# EAGLE library part 52892-1895 (library Molex_By_element14_Batch_1)
CONNECTOR, FPC, ZIF, 0.50MM, 18 WAY
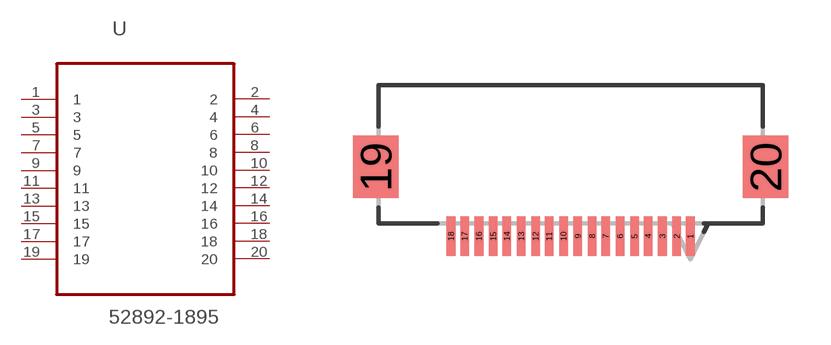
[diagram p32: symbol with the pads of MOLEX_52892-1895; footprint MOLEX_52892-1895]

Designator prefix U

## 52892-1895 (MPN: 52892-1895; OC_FARNELL: 1556808; OC_NEWARK: 95M2697; PACKAGE: CONNECTOR, FPC, ZIF, 0.50MM, 18 WAY; SUPPLIER: Molex)  [MOLEX_52892-1895]
1  1  pas
2  2  pas
3  3  pas
4  4  pas
5  5  pas
6  6  pas
7  7  pas
8  8  pas
9  9  pas
10  10  pas
11  11  pas
12  12  pas
13  13  pas
14  14  pas
15  15  pas
16  16  pas
17  17  pas
18  18  pas
19  19  pas
20  20  pas

## Footprint MOLEX_52892-1895 (pad centres in mm)
smd 0.305 x 1.397: 1 4.242,2.896; 2 3.759,2.896; 3 3.251,2.896; 4 2.743,2.896; 5 2.261,2.896; 6 1.753,2.896; 7 1.245,2.896; 8 0.762,2.896; 9 0.254,2.896; 10 -0.254,2.896; 11 -0.762,2.896; 12 -1.245,2.896; 13 -1.753,2.896; 14 -2.261,2.896; 15 -2.743,2.896; 16 -3.251,2.896; 17 -3.759,2.896; 18 -4.242,2.896
smd 1.6 x 2.21: 19 -6.909,5.359; 20 6.909,5.359